# EAGLE library part TB67H450FNG,EL (library TB67H450FNG_EL)
Check availability <https://pricing.snapeda.com/parts/TB67H450FNG%2CEL/Toshiba%20Semiconductor%20and%20Storage/view-part?ref=eda>
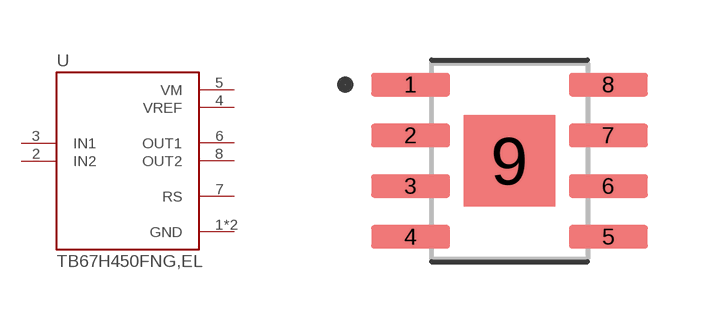
[diagram p0: symbol with the pads of SOIC127P599X175-9N; footprint SOIC127P599X175-9N]

Designator prefix U

## TB67H450FNG,EL (Availability: In Stock; Description: - Motor Driver - - 8-HSOP; MF: Toshiba Semiconductor and Storage; MP: TB67H450FNG,EL; Package: SOIC-8 Toshiba Semiconductor and Storage; Price: None; Purchase-URL: https://pricing.snapeda.com/search/part/TB67H450FNG,EL/?ref=eda)  [SOIC127P599X175-9N]
1  GND  pwr
2  IN2  in
3  IN1  in
4  VREF  pwr
5  VM  pwr
6  OUT1  out
7  RS  out
8  OUT2  out
9  GND  pwr

## Footprint SOIC127P599X175-9N (pad centres in mm)
smd 1.97 x 0.58: 1 -2.47,1.905; 2 -2.47,0.635; 3 -2.47,-0.635; 4 -2.47,-1.905; 5 2.47,-1.905; 6 2.47,-0.635; 7 2.47,0.635; 8 2.47,1.905
smd 2.285 x 2.285: 9 0,0